# Altium footprint library A0099-D015.PcbLib: 21 footprints (part 1 of 2)
Each footprint in its own frame and in the unit in brackets; x right, y up, seen from the top. Pads: shape width x height; smd on the part's side, far side on the other; paste and mask are expansions set on the pad; w line width, h text height; cw(c..) or ccw(c..) is an arc to the next point about the centre after c.
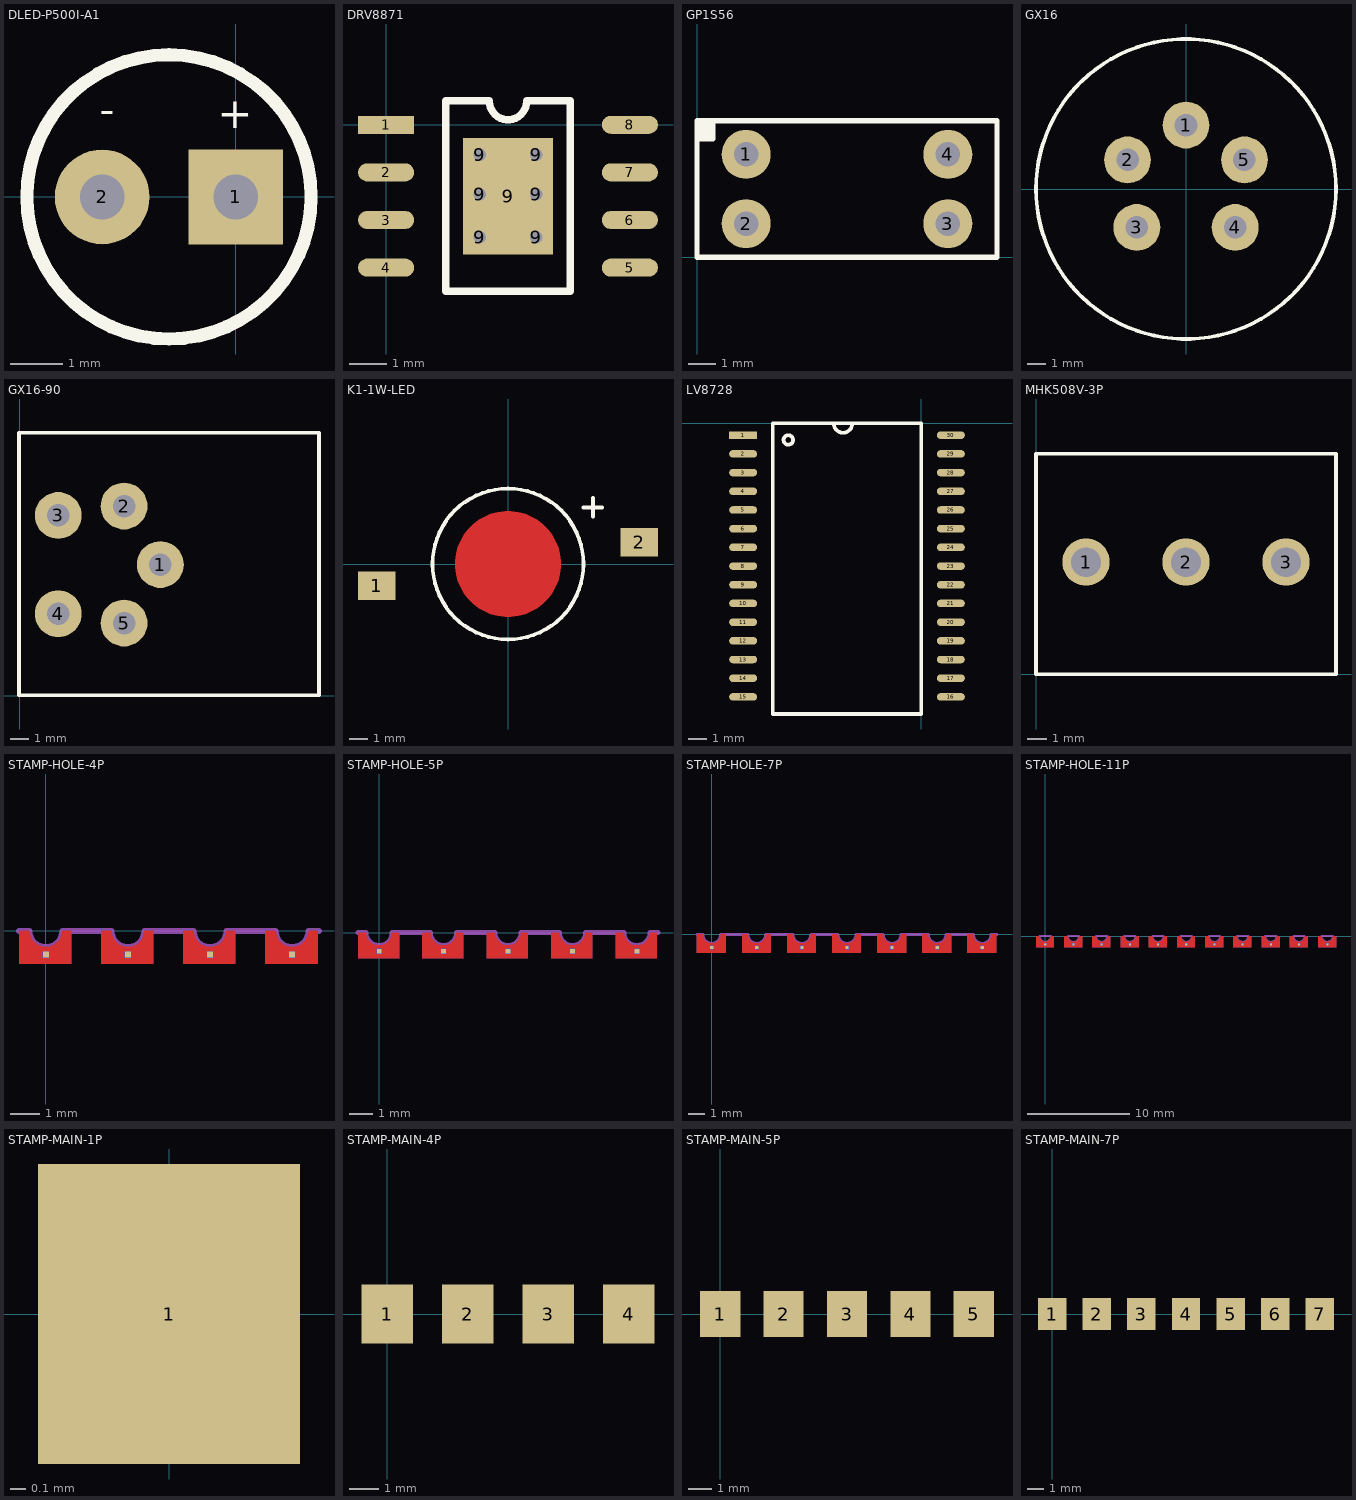
[diagram p0: the footprints below, top view; thin cyan lines are the x and y axes]

## DLED-P500I-A1 [mm]
pads (2):
  rect 1.8x1.8 hole 0.85: 1(0,0)
  round 1.8 hole 0.85: 2(-2.54,0)
Top Overlay:
  circle w0.25: c-1.27,0 r2.7
  text "-" at -2.3,2 h1
  text "+" at 0.325,2 h1

## DRV8871 [mm]
height 12
pads (15):
  rect 1.5x0.48 smd: 1(0,0)
  oval 1.5x0.48 smd: 2(0,-1.27) 3(0,-2.54) 4(0,-3.81) 5(6.5,-3.81) 6(6.5,-2.54) 7(6.5,-1.27) 8(6.5,0)
  round 0.7 hole 0.33: 9(2.5,-3) 9(2.5,-1.85) 9(2.5,-0.8) 9(4,-3) 9(4,-1.85) 9(4,-0.8)
  rect 2.4x3.1 smd: 9(3.25,-1.905)
Top Overlay:
  lines w0.2: 1.585,-4.445 4.915,-4.445 4.915,0.635 3.75,0.635 cw(c3.25,0.635) 2.75,0.635 1.585,0.635 1.585,-4.445
3D body "SW3DPS-SO-8 (PIC12FXXX)-DEFAULT.STEP": height 1.6, standoff 0, extent 0.255,-4.364 6.245,0.536

## GP1S56 [mm]
pads (4):
  round 1.8 hole 0.9: 1(1.8,3.77) 2(1.8,1.23) 3(9.2,1.23) 4(9.2,3.77)
Top Overlay:
  lines w0.2: 0.011,4.795 0.567,4.795 ; 0.013,4.334 0.569,4.334 0.569,4.941 0.013,4.941 ; 0.013,4.638 0.569,4.638 ; 0.014,4.492 0.57,4.492 ; 0,0 0,5 11,5 11,0 0,0

## GX16 [mm]
pads (5):
  round 2.5 hole 1.2: 1(0,3.41) 2(-3.12,1.55) 3(-2.62,-2.05) 4(2.62,-2.05) 5(3.12,1.55)
Top Overlay:
  circle w0.2: c0,0 r8

## GX16-90 [mm]
pads (5):
  round 2.5 hole 1.2: 1(7.5,7) 2(5.56,10.12) 3(2.05,9.62) 4(2.05,4.38) 5(5.56,3.88)
Top Overlay:
  lines w0.2: -0.041,0.03 -0.041,14.03 15.959,14.03 15.959,0.03 -0.041,0.03

## K1-1W-LED [mm]
pads (2):
  rect 2x1.5 smd: 1(-6.95,-1.15) 2(6.95,1.15)
Top Layer:
  region: 0,-2.8 -0.184,-2.8 -0.547,-2.752 -0.902,-2.657 -1.241,-2.517 -1.559,-2.333 -1.85,-2.11 -2.11,-1.85 -2.333,-1.559 -2.517,-1.241 -2.657,-0.902 -2.752,-0.547 -2.8,-0.184 -2.8,0 -2.8,0.184 -2.752,0.547 -2.657,0.902 -2.517,1.241 -2.333,1.559 -2.11,1.85 -1.85,2.11 -1.559,2.333 -1.241,2.517 -0.902,2.657 -0.547,2.752 -0.184,2.8 0,2.8 0.184,2.8 0.547,2.752 0.902,2.657 1.241,2.517 1.559,2.333 1.85,2.11 2.11,1.85 2.333,1.559 2.517,1.241 2.657,0.902 2.752,0.547 2.8,0.184 2.8,0 2.8,-0.184 2.752,-0.547 2.657,-0.902 2.517,-1.241 2.333,-1.559 2.11,-1.85 1.85,-2.11 1.559,-2.333 1.241,-2.517 0.902,-2.657 0.547,-2.752 0.184,-2.8
Top Overlay:
  circle w0.2: c0,0 r4
  lines w0.2: 4,3 5,3 ; 4.5,2.5 4.5,3.5

## LV8728 [mm]
pads (30):
  rect 1.5x0.4 smd: 1(-9.525,-0.635)
  oval 1.5x0.4 smd: 2(-9.525,-1.635) 3(-9.525,-2.635) 4(-9.525,-3.635) 5(-9.525,-4.635) 6(-9.525,-5.635) 7(-9.525,-6.635) 8(-9.525,-7.635) 9(-9.525,-8.635) 10(-9.525,-9.635) 11(-9.525,-10.635) 12(-9.525,-11.635) 13(-9.525,-12.635) 14(-9.525,-13.635) 15(-9.525,-14.635) 16(1.585,-14.635) 17(1.585,-13.635) 18(1.585,-12.635) 19(1.585,-11.635) 20(1.585,-10.635) 21(1.585,-9.635) 22(1.585,-8.635) 23(1.585,-7.635) 24(1.585,-6.635) 25(1.585,-5.635) 26(1.585,-4.635) 27(1.585,-3.635) 28(1.585,-2.635) 29(1.585,-1.635) 30(1.585,-0.635)
Top Overlay:
  circle w0.2: c-7.112,-0.889 r0.254
  lines w0.2: -6.775,0 -7.94,0 ; -5.775,0 0,0 0,-15.55 -7.94,-15.55 -7.94,0 ; -4.683,0 ccw(c-4.183,0) -3.683,0 ; -0.04,0 -7.94,0

## MHK508V-3P [mm]
pads (3):
  round 2.4 hole 1.5: 1(2.54,5.7) 2(7.62,5.7) 3(12.7,5.7)
Top Overlay:
  lines w0.2: 0,0 0,11.2 15.24,11.2 15.24,0 0,0

## STAMP-HOLE-4P [mm]
pads (8):
  rect 0.2x0.2 smd mask+0.102: 1(0,-0.8) 2(2.75,-0.8) 3(5.5,-0.8) 4(8.25,-0.8)
  rect 0.2x0.2 smd far side mask+0.102: 1(0,-0.8) 2(2.75,-0.8) 3(5.5,-0.8) 4(8.25,-0.8)
Top Layer:
  region: -0.9,-1.1 0.85,-1.1 0.85,0 0.55,0 0.539,-0.107 0.457,-0.306 0.306,-0.457 0.107,-0.539 -0.107,-0.539 -0.306,-0.457 -0.457,-0.306 -0.539,-0.107 -0.55,0 -0.9,0
  region: 1.85,-1.1 3.6,-1.1 3.6,0 3.3,0 3.289,-0.107 3.207,-0.306 3.056,-0.457 2.857,-0.539 2.643,-0.539 2.444,-0.457 2.293,-0.306 2.211,-0.107 2.2,0 1.85,0
  region: 4.6,-1.1 6.35,-1.1 6.35,0 6.05,0 6.039,-0.107 5.957,-0.306 5.806,-0.457 5.607,-0.539 5.393,-0.539 5.194,-0.457 5.043,-0.306 4.961,-0.107 4.95,0 4.6,0
  region: 7.35,-1.1 9.1,-1.1 9.1,0 8.8,0 8.789,-0.107 8.707,-0.306 8.556,-0.457 8.357,-0.539 8.143,-0.539 7.944,-0.457 7.793,-0.306 7.711,-0.107 7.7,0 7.35,0
Bottom Layer:
  region: -0.9,-1.1 0.85,-1.1 0.85,0 0.55,0 0.539,-0.107 0.457,-0.306 0.306,-0.457 0.107,-0.539 -0.107,-0.539 -0.306,-0.457 -0.457,-0.306 -0.539,-0.107 -0.55,0 -0.9,0
  region: 1.85,-1.1 3.6,-1.1 3.6,0 3.3,0 3.289,-0.107 3.207,-0.306 3.056,-0.457 2.857,-0.539 2.643,-0.539 2.444,-0.457 2.293,-0.306 2.211,-0.107 2.2,0 1.85,0
  region: 4.6,-1.1 6.35,-1.1 6.35,0 6.05,0 6.039,-0.107 5.957,-0.306 5.806,-0.457 5.607,-0.539 5.393,-0.539 5.194,-0.457 5.043,-0.306 4.961,-0.107 4.95,0 4.6,0
  region: 7.35,-1.1 9.1,-1.1 9.1,0 8.8,0 8.789,-0.107 8.707,-0.306 8.556,-0.457 8.357,-0.539 8.143,-0.539 7.944,-0.457 7.793,-0.306 7.711,-0.107 7.7,0 7.35,0
Mechanical 1:
  lines w0.2: -0.9,0 -0.55,0 ccw(c0,0) 0.55,0 2.2,0 ccw(c2.75,0) 3.3,0 4.95,0 ccw(c5.5,0) 6.05,0 7.7,0 ccw(c8.25,0) 8.8,0 9.15,0

## STAMP-HOLE-5P [mm]
pads (10):
  rect 0.2x0.2 smd mask+0.102: 1(0,-0.8) 2(2.75,-0.8) 3(5.5,-0.8) 4(8.25,-0.8) 5(11,-0.8)
  rect 0.2x0.2 smd far side mask+0.102: 1(0,-0.8) 2(2.75,-0.8) 3(5.5,-0.8) 4(8.25,-0.8) 5(11,-0.8)
Top Layer:
  region: -0.9,-1.1 0.85,-1.1 0.85,0 0.55,0 0.539,-0.107 0.457,-0.306 0.306,-0.457 0.107,-0.539 -0.107,-0.539 -0.306,-0.457 -0.457,-0.306 -0.539,-0.107 -0.55,0 -0.9,0
  region: 1.85,-1.1 3.6,-1.1 3.6,0 3.3,0 3.289,-0.107 3.207,-0.306 3.056,-0.457 2.857,-0.539 2.643,-0.539 2.444,-0.457 2.293,-0.306 2.211,-0.107 2.2,0 1.85,0
  region: 4.6,-1.1 6.35,-1.1 6.35,0 6.05,0 6.039,-0.107 5.957,-0.306 5.806,-0.457 5.607,-0.539 5.393,-0.539 5.194,-0.457 5.043,-0.306 4.961,-0.107 4.95,0 4.6,0
  region: 7.35,-1.1 9.1,-1.1 9.1,0 8.8,0 8.789,-0.107 8.707,-0.306 8.556,-0.457 8.357,-0.539 8.143,-0.539 7.944,-0.457 7.793,-0.306 7.711,-0.107 7.7,0 7.35,0
  region: 10.1,-1.1 11.85,-1.1 11.85,0 11.55,0 11.539,-0.107 11.457,-0.306 11.306,-0.457 11.107,-0.539 10.893,-0.539 10.694,-0.457 10.543,-0.306 10.461,-0.107 10.45,0 10.1,0
Bottom Layer:
  region: -0.9,-1.1 0.85,-1.1 0.85,0 0.55,0 0.539,-0.107 0.457,-0.306 0.306,-0.457 0.107,-0.539 -0.107,-0.539 -0.306,-0.457 -0.457,-0.306 -0.539,-0.107 -0.55,0 -0.9,0
  region: 1.85,-1.1 3.6,-1.1 3.6,0 3.3,0 3.289,-0.107 3.207,-0.306 3.056,-0.457 2.857,-0.539 2.643,-0.539 2.444,-0.457 2.293,-0.306 2.211,-0.107 2.2,0 1.85,0
  region: 4.6,-1.1 6.35,-1.1 6.35,0 6.05,0 6.039,-0.107 5.957,-0.306 5.806,-0.457 5.607,-0.539 5.393,-0.539 5.194,-0.457 5.043,-0.306 4.961,-0.107 4.95,0 4.6,0
  region: 7.35,-1.1 9.1,-1.1 9.1,0 8.8,0 8.789,-0.107 8.707,-0.306 8.556,-0.457 8.357,-0.539 8.143,-0.539 7.944,-0.457 7.793,-0.306 7.711,-0.107 7.7,0 7.35,0
  region: 10.1,-1.1 11.85,-1.1 11.85,0 11.55,0 11.539,-0.107 11.457,-0.306 11.306,-0.457 11.107,-0.539 10.893,-0.539 10.694,-0.457 10.543,-0.306 10.461,-0.107 10.45,0 10.1,0
Mechanical 1:
  lines w0.2: -0.9,0 -0.55,0 ccw(c0,0) 0.55,0 2.2,0 ccw(c2.75,0) 3.3,0 4.95,0 ccw(c5.5,0) 6.05,0 7.7,0 ccw(c8.25,0) 8.8,0 10.45,0 ccw(c11,0) 11.55,0 11.9,0

## STAMP-HOLE-7P [mm]
pads (14):
  rect 0.2x0.2 smd mask+0.102: 1(0,-0.8) 2(2.75,-0.8) 3(5.5,-0.8) 4(8.25,-0.8) 5(11,-0.8) 6(13.75,-0.8) 7(16.5,-0.8)
  rect 0.2x0.2 smd far side mask+0.102: 1(0,-0.8) 2(2.75,-0.8) 3(5.5,-0.8) 4(8.25,-0.8) 5(11,-0.8) 6(13.75,-0.8) 7(16.5,-0.8)
Top Layer:
  region: 7.35,-1.1 9.1,-1.1 9.1,0 8.8,0 8.789,-0.107 8.707,-0.306 8.556,-0.457 8.357,-0.539 8.143,-0.539 7.944,-0.457 7.793,-0.306 7.711,-0.107 7.7,0 7.35,0
  region: 4.6,-1.1 6.35,-1.1 6.35,0 6.05,0 6.039,-0.107 5.957,-0.306 5.806,-0.457 5.607,-0.539 5.393,-0.539 5.194,-0.457 5.043,-0.306 4.961,-0.107 4.95,0 4.6,0
  region: 1.85,-1.1 3.6,-1.1 3.6,0 3.3,0 3.289,-0.107 3.207,-0.306 3.056,-0.457 2.857,-0.539 2.643,-0.539 2.444,-0.457 2.293,-0.306 2.211,-0.107 2.2,0 1.85,0
  region: -0.9,-1.1 0.85,-1.1 0.85,0 0.55,0 0.539,-0.107 0.457,-0.306 0.306,-0.457 0.107,-0.539 -0.107,-0.539 -0.306,-0.457 -0.457,-0.306 -0.539,-0.107 -0.55,0 -0.9,0
  region: 15.6,-1.1 17.35,-1.1 17.35,0 17.05,0 17.039,-0.107 16.957,-0.306 16.806,-0.457 16.607,-0.539 16.393,-0.539 16.194,-0.457 16.043,-0.306 15.961,-0.107 15.95,0 15.6,0
  region: 12.85,-1.1 14.6,-1.1 14.6,0 14.3,0 14.289,-0.107 14.207,-0.306 14.056,-0.457 13.857,-0.539 13.643,-0.539 13.444,-0.457 13.293,-0.306 13.211,-0.107 13.2,0 12.85,0
  region: 10.1,-1.1 11.85,-1.1 11.85,0 11.55,0 11.539,-0.107 11.457,-0.306 11.306,-0.457 11.107,-0.539 10.893,-0.539 10.694,-0.457 10.543,-0.306 10.461,-0.107 10.45,0 10.1,0
Bottom Layer:
  region: 7.35,-1.1 9.1,-1.1 9.1,0 8.8,0 8.789,-0.107 8.707,-0.306 8.556,-0.457 8.357,-0.539 8.143,-0.539 7.944,-0.457 7.793,-0.306 7.711,-0.107 7.7,0 7.35,0
  region: 4.6,-1.1 6.35,-1.1 6.35,0 6.05,0 6.039,-0.107 5.957,-0.306 5.806,-0.457 5.607,-0.539 5.393,-0.539 5.194,-0.457 5.043,-0.306 4.961,-0.107 4.95,0 4.6,0
  region: 1.85,-1.1 3.6,-1.1 3.6,0 3.3,0 3.289,-0.107 3.207,-0.306 3.056,-0.457 2.857,-0.539 2.643,-0.539 2.444,-0.457 2.293,-0.306 2.211,-0.107 2.2,0 1.85,0
  region: -0.9,-1.1 0.85,-1.1 0.85,0 0.55,0 0.539,-0.107 0.457,-0.306 0.306,-0.457 0.107,-0.539 -0.107,-0.539 -0.306,-0.457 -0.457,-0.306 -0.539,-0.107 -0.55,0 -0.9,0
  region: 15.6,-1.1 17.35,-1.1 17.35,0 17.05,0 17.039,-0.107 16.957,-0.306 16.806,-0.457 16.607,-0.539 16.393,-0.539 16.194,-0.457 16.043,-0.306 15.961,-0.107 15.95,0 15.6,0
  region: 12.85,-1.1 14.6,-1.1 14.6,0 14.3,0 14.289,-0.107 14.207,-0.306 14.056,-0.457 13.857,-0.539 13.643,-0.539 13.444,-0.457 13.293,-0.306 13.211,-0.107 13.2,0 12.85,0
  region: 10.1,-1.1 11.85,-1.1 11.85,0 11.55,0 11.539,-0.107 11.457,-0.306 11.306,-0.457 11.107,-0.539 10.893,-0.539 10.694,-0.457 10.543,-0.306 10.461,-0.107 10.45,0 10.1,0
Mechanical 1:
  lines w0.2: -0.9,0 -0.55,0 ccw(c0,0) 0.55,0 2.2,0 ccw(c2.75,0) 3.3,0 4.95,0 ccw(c5.5,0) 6.05,0 7.7,0 ccw(c8.25,0) 8.8,0 10.45,0 ccw(c11,0) 11.55,0 13.2,0 ccw(c13.75,0) 14.3,0 15.95,0 ccw(c16.5,0) 17.05,0 17.4,0

## STAMP-HOLE-11P [mm]
pads (22):
  rect 0.2x0.2 smd far side mask+0.102: 1(0,-0.8) 2(2.75,-0.8) 3(5.5,-0.8) 4(8.25,-0.8) 5(11,-0.8) 6(13.75,-0.8) 7(16.5,-0.8) 8(19.25,-0.8) 9(22,-0.8) 10(24.75,-0.8) 11(27.5,-0.8)
  rect 0.2x0.2 smd mask+0.102: 1(0,-0.8) 2(2.75,-0.8) 3(5.5,-0.8) 4(8.25,-0.8) 5(11,-0.8) 6(13.75,-0.8) 7(16.5,-0.8) 8(19.25,-0.8) 9(22,-0.8) 10(24.75,-0.8) 11(27.5,-0.8)
Top Layer:
  region: -0.9,-1.1 0.85,-1.1 0.85,0 0.55,0 0.539,-0.107 0.457,-0.306 0.306,-0.457 0.107,-0.539 -0.107,-0.539 -0.306,-0.457 -0.457,-0.306 -0.539,-0.107 -0.55,0 -0.9,0
  region: 1.85,-1.1 3.6,-1.1 3.6,0 3.3,0 3.289,-0.107 3.207,-0.306 3.056,-0.457 2.857,-0.539 2.643,-0.539 2.444,-0.457 2.293,-0.306 2.211,-0.107 2.2,0 1.85,0
  region: 4.6,-1.1 6.35,-1.1 6.35,0 6.05,0 6.039,-0.107 5.957,-0.306 5.806,-0.457 5.607,-0.539 5.393,-0.539 5.194,-0.457 5.043,-0.306 4.961,-0.107 4.95,0 4.6,0
  region: 7.35,-1.1 9.1,-1.1 9.1,0 8.8,0 8.789,-0.107 8.707,-0.306 8.556,-0.457 8.357,-0.539 8.143,-0.539 7.944,-0.457 7.793,-0.306 7.711,-0.107 7.7,0 7.35,0
  region: 10.1,-1.1 11.85,-1.1 11.85,0 11.55,0 11.539,-0.107 11.457,-0.306 11.306,-0.457 11.107,-0.539 10.893,-0.539 10.694,-0.457 10.543,-0.306 10.461,-0.107 10.45,0 10.1,0
  region: 12.85,-1.1 14.6,-1.1 14.6,0 14.3,0 14.289,-0.107 14.207,-0.306 14.056,-0.457 13.857,-0.539 13.643,-0.539 13.444,-0.457 13.293,-0.306 13.211,-0.107 13.2,0 12.85,0
  region: 15.6,-1.1 17.35,-1.1 17.35,0 17.05,0 17.039,-0.107 16.957,-0.306 16.806,-0.457 16.607,-0.539 16.393,-0.539 16.194,-0.457 16.043,-0.306 15.961,-0.107 15.95,0 15.6,0
  region: 18.35,-1.1 20.1,-1.1 20.1,0 19.8,0 19.789,-0.107 19.707,-0.306 19.556,-0.457 19.357,-0.539 19.143,-0.539 18.944,-0.457 18.793,-0.306 18.711,-0.107 18.7,0 18.35,0
  region: 21.1,-1.1 22.85,-1.1 22.85,0 22.55,0 22.539,-0.107 22.457,-0.306 22.306,-0.457 22.107,-0.539 21.893,-0.539 21.694,-0.457 21.543,-0.306 21.461,-0.107 21.45,0 21.1,0
  region: 23.85,-1.1 25.6,-1.1 25.6,0 25.3,0 25.289,-0.107 25.207,-0.306 25.056,-0.457 24.857,-0.539 24.643,-0.539 24.444,-0.457 24.293,-0.306 24.211,-0.107 24.2,0 23.85,0
  region: 26.6,-1.1 28.35,-1.1 28.35,0 28.05,0 28.039,-0.107 27.957,-0.306 27.806,-0.457 27.607,-0.539 27.393,-0.539 27.194,-0.457 27.043,-0.306 26.961,-0.107 26.95,0 26.6,0
Bottom Layer:
  region: -0.9,-1.1 0.85,-1.1 0.85,0 0.55,0 0.539,-0.107 0.457,-0.306 0.306,-0.457 0.107,-0.539 -0.107,-0.539 -0.306,-0.457 -0.457,-0.306 -0.539,-0.107 -0.55,0 -0.9,0
  region: 1.85,-1.1 3.6,-1.1 3.6,0 3.3,0 3.289,-0.107 3.207,-0.306 3.056,-0.457 2.857,-0.539 2.643,-0.539 2.444,-0.457 2.293,-0.306 2.211,-0.107 2.2,0 1.85,0
  region: 4.6,-1.1 6.35,-1.1 6.35,0 6.05,0 6.039,-0.107 5.957,-0.306 5.806,-0.457 5.607,-0.539 5.393,-0.539 5.194,-0.457 5.043,-0.306 4.961,-0.107 4.95,0 4.6,0
  region: 7.35,-1.1 9.1,-1.1 9.1,0 8.8,0 8.789,-0.107 8.707,-0.306 8.556,-0.457 8.357,-0.539 8.143,-0.539 7.944,-0.457 7.793,-0.306 7.711,-0.107 7.7,0 7.35,0
  region: 10.1,-1.1 11.85,-1.1 11.85,0 11.55,0 11.539,-0.107 11.457,-0.306 11.306,-0.457 11.107,-0.539 10.893,-0.539 10.694,-0.457 10.543,-0.306 10.461,-0.107 10.45,0 10.1,0
  region: 12.85,-1.1 14.6,-1.1 14.6,0 14.3,0 14.289,-0.107 14.207,-0.306 14.056,-0.457 13.857,-0.539 13.643,-0.539 13.444,-0.457 13.293,-0.306 13.211,-0.107 13.2,0 12.85,0
  region: 15.6,-1.1 17.35,-1.1 17.35,0 17.05,0 17.039,-0.107 16.957,-0.306 16.806,-0.457 16.607,-0.539 16.393,-0.539 16.194,-0.457 16.043,-0.306 15.961,-0.107 15.95,0 15.6,0
  region: 18.35,-1.1 20.1,-1.1 20.1,0 19.8,0 19.789,-0.107 19.707,-0.306 19.556,-0.457 19.357,-0.539 19.143,-0.539 18.944,-0.457 18.793,-0.306 18.711,-0.107 18.7,0 18.35,0
  region: 21.1,-1.1 22.85,-1.1 22.85,0 22.55,0 22.539,-0.107 22.457,-0.306 22.306,-0.457 22.107,-0.539 21.893,-0.539 21.694,-0.457 21.543,-0.306 21.461,-0.107 21.45,0 21.1,0
  region: 23.85,-1.1 25.6,-1.1 25.6,0 25.3,0 25.289,-0.107 25.207,-0.306 25.056,-0.457 24.857,-0.539 24.643,-0.539 24.444,-0.457 24.293,-0.306 24.211,-0.107 24.2,0 23.85,0
  region: 26.6,-1.1 28.35,-1.1 28.35,0 28.05,0 28.039,-0.107 27.957,-0.306 27.806,-0.457 27.607,-0.539 27.393,-0.539 27.194,-0.457 27.043,-0.306 26.961,-0.107 26.95,0 26.6,0
Mechanical 1:
  lines w0.2: -0.55,0 ccw(c0,0) 0.55,0 -0.55,0 ; 2.2,0 ccw(c2.75,0) 3.3,0 2.2,0 ; 4.95,0 ccw(c5.5,0) 6.05,0 4.95,0 ; 7.7,0 ccw(c8.25,0) 8.8,0 7.7,0 ; 10.45,0 ccw(c11,0) 11.55,0 10.45,0 ; 13.2,0 ccw(c13.75,0) 14.3,0 13.2,0 ; 15.95,0 ccw(c16.5,0) 17.05,0 15.95,0 ; 18.7,0 ccw(c19.25,0) 19.8,0 18.7,0 ; 21.45,0 ccw(c22,0) 22.55,0 21.45,0 ; 24.2,0 ccw(c24.75,0) 25.3,0 24.2,0 ; 26.95,0 ccw(c27.5,0) 28.05,0 26.95,0

## STAMP-MAIN-1P [mm]
pads (1):
  rect 1.75x2 smd: 1(0,0)

## STAMP-MAIN-4P [mm]
pads (4):
  rect 1.75x2 smd: 1(0,0) 2(2.75,0) 3(5.5,0) 4(8.25,0)

## STAMP-MAIN-5P [mm]
pads (5):
  rect 1.75x2 smd: 1(0,0) 2(2.75,0) 3(5.5,0) 4(8.25,0) 5(11,0)

## STAMP-MAIN-7P [mm]
pads (7):
  rect 1.75x2 smd: 1(0,0) 2(2.75,0) 3(5.5,0) 4(8.25,0) 5(11,0) 6(13.75,0) 7(16.5,0)